# Altium footprint library Biel.PcbLib: 11 footprints
Each footprint in its own frame and in the unit in brackets; x right, y up, seen from the top. Pads: shape width x height; smd on the part's side, far side on the other; paste and mask are expansions set on the pad; w line width, h text height; cw(c..) or ccw(c..) is an arc to the next point about the centre after c.
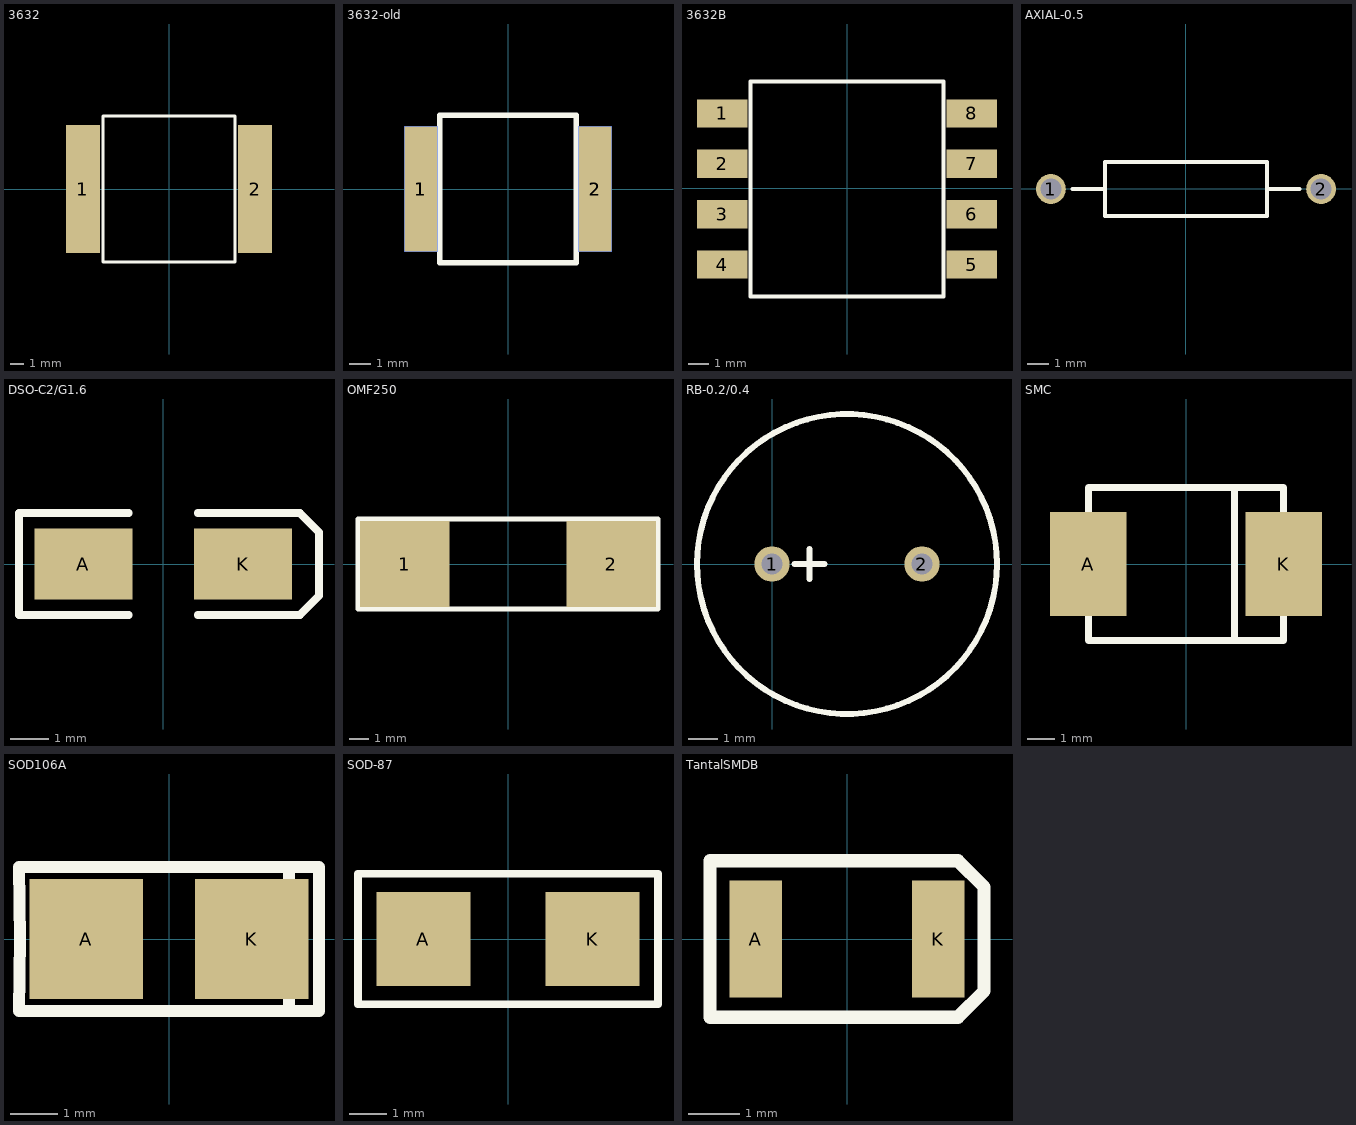
[diagram p0: the footprints below, top view; thin cyan lines are the x and y axes]

## 3632 [mm]
pads (2):
  rect 2.5x9.3 smd: 1(-6.25,0) 2(6.25,0)
Top Overlay:
  lines w0.2: -4.8,-5.3 -4.8,5.3 4.8,5.3 4.8,-5.3 -4.8,-5.3

## 3632-old [mil]
pads (4):
  rect 60x230 smd: 1(-160,0) 2(160,0)
  rect 60x230 smd far side: 1(-160,0) 2(160,0)
Top Overlay:
  lines w10: -125,-135 -125,0 -125,135 125,135 125,-135 -125,-135

## 3632B [mm]
pads (8):
  rect 2.5x1.4 smd: 1(-6.2,3.705) 2(-6.2,1.205) 3(-6.2,-1.295) 4(-6.2,-3.795) 5(6.2,-3.795) 6(6.2,-1.295) 7(6.2,1.205) 8(6.2,3.705)
Top Overlay:
  lines w0.2: -4.8,-5.395 4.8,-5.395 4.8,5.305 -4.8,5.305 -4.8,-5.395

## AXIAL-0.5 [mm]
pads (2):
  round 1.4 hole 1: 1(-6.339,-0.01) 2(6.361,-0.01)
Top Overlay:
  lines w0.2: -5.323,-0.01 -3.799,-0.01 ; 3.821,-0.01 5.345,-0.01 ; -3.799,-1.28 3.821,-1.28 3.821,1.26 -3.799,1.26 -3.799,-1.28

## DSO-C2/G1.6 [mm]
pads (2):
  rect 2.55x1.85 smd: A(-2.075,0) K(2.075,0)
Top Overlay:
  lines w0.2: -0.9,-1.325 -3.75,-1.325 -3.75,1.325 -0.9,1.325 ; 0.9,-1.325 3.555,-1.325 4.05,-0.825 4.05,0.825 3.555,1.325 0.9,1.325

## OMF250 [mm]
pads (2):
  rect 4.6x4.4 smd: 1(-5.3,0) 2(5.3,0)
Top Overlay:
  lines w0.254: -7.7,-2.3 7.7,-2.3 7.7,2.3 -7.7,2.3 -7.7,0 -7.7,-2.3

## RB-0.2/0.4 [mm]
pads (2):
  round 1.2 hole 0.7: 1(0,0) 2(5.08,0)
Top Overlay:
  circle w0.2: c2.54,0 r5.08
  lines w0.2: 0.762,0 1.778,0 ; 1.27,-0.508 1.27,0.508

## SMC [mil]
pads (2):
  rect 110x150 smd: A(-140.5,0) K(140.5,0)
Top Overlay:
  lines w10: 70,-110 70,110 ; -140,-110 140,-110 140,110 -140,110 -140,0 -140,-110

## SOD106A [mm]
pads (2):
  rect 2.4x2.54 smd: A(-1.75,0) K(1.75,0)
Top Overlay:
  lines w0.254: 2.54,-1.524 2.54,1.524 ; -3.175,-1.524 -3.157,0 -3.175,1.524 3.175,1.524 3.175,-1.524 -3.175,-1.524

## SOD-87 [mm]
pads (2):
  rect 2.5x2.5 smd: A(-2.25,0) K(2.25,0)
Top Overlay:
  lines w0.2: -3.992,-1.742 -3.992,0 -3.992,1.742 3.992,1.742 3.992,-1.742 -3.992,-1.742

## TantalSMDB [mil]
pads (2):
  rect 40x90 smd: A(-70,0) K(70,0)
Top Overlay:
  lines w10: -105,-60 85,-60 105,-40 105,40 85,60 -105,60 -105,0 -105,-60